# Altium integrated library TI Audio CODEC.IntLib: 199 symbols (part 17 of 17)
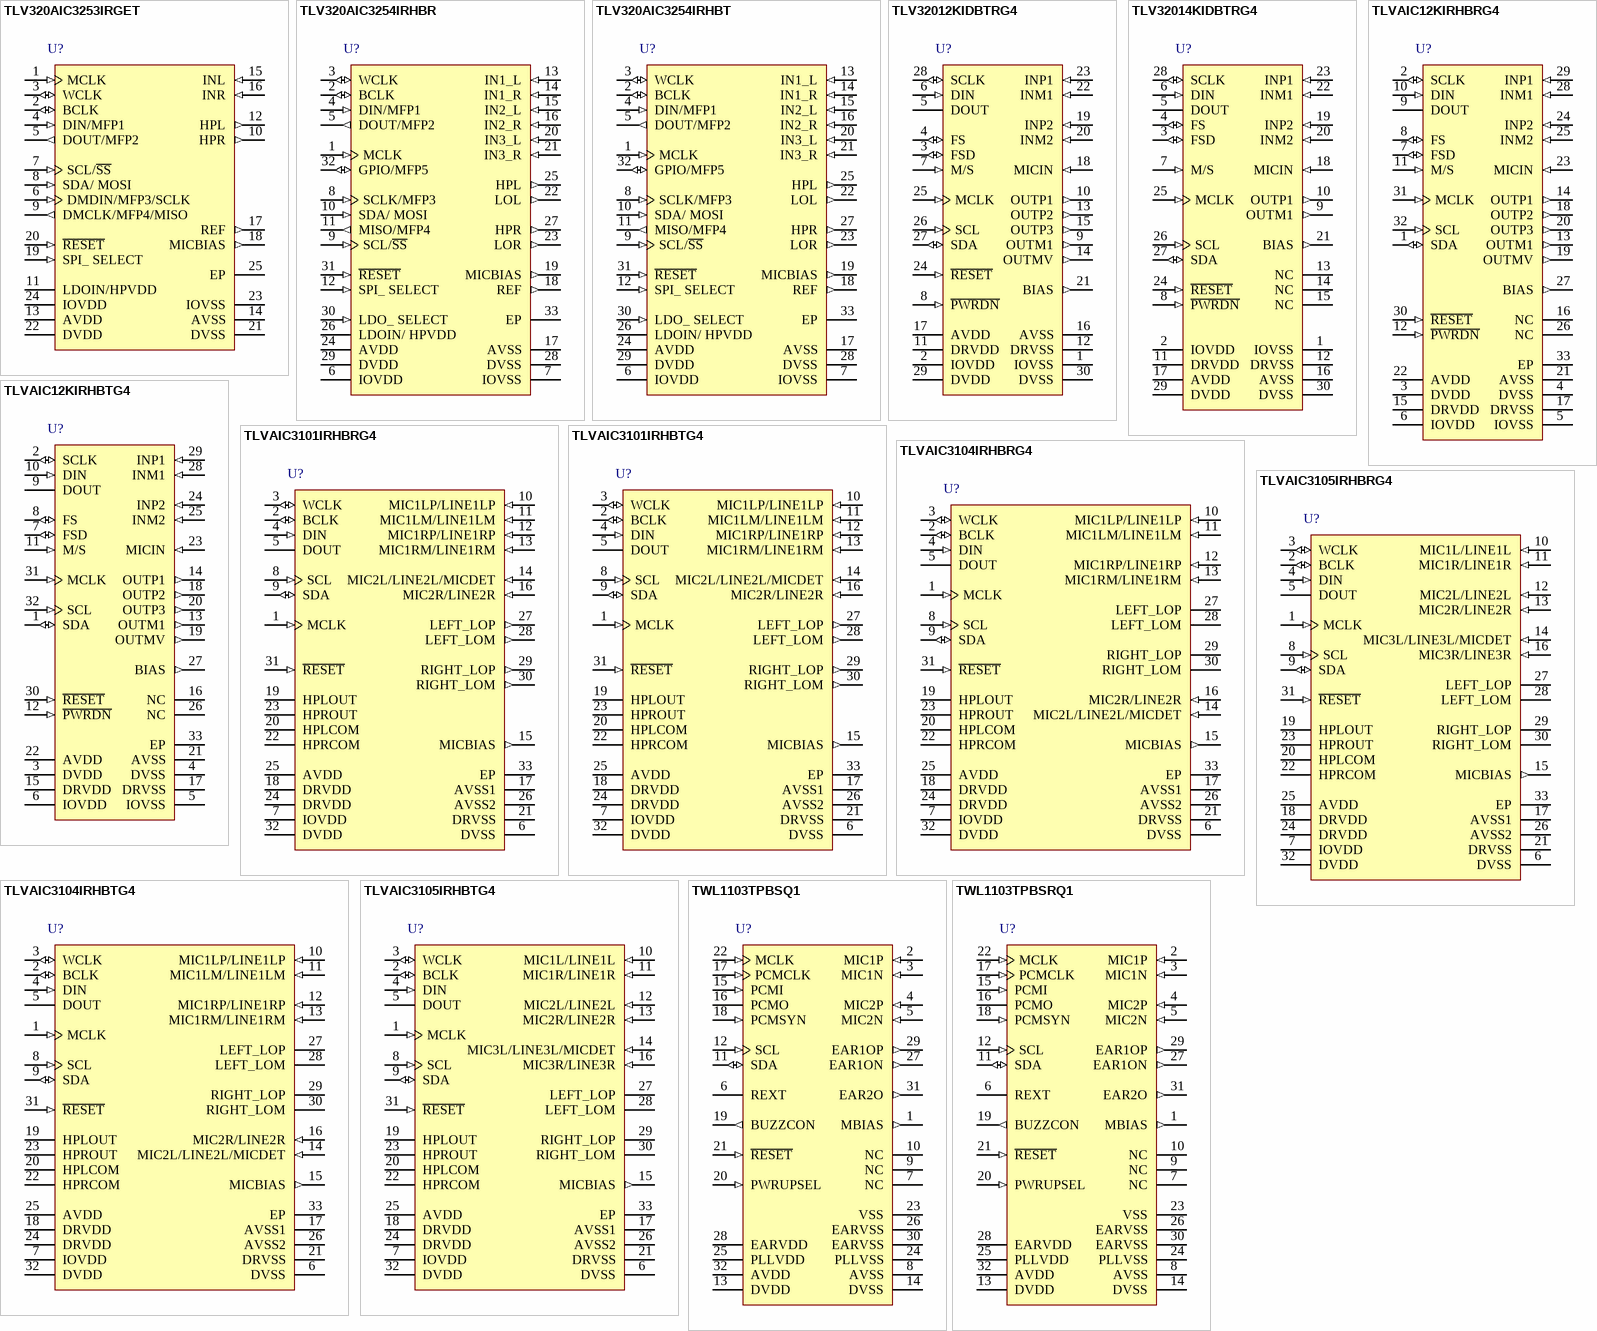
[diagram p29: symbols TLV320AIC3253IRGET to TWL1103TPBSRQ1]

## TLV320AIC3254IRHBT
designator U?
Very Low-Power Stereo Audio CODEC with miniDSP and Power Tune™ Technology, 2 ADCs and 2 DACs, 100 dB DAC SNR, -40 to 85 degC, 32-pin QFN (RHB), Green (RoHS & no Sb/Br); Manufacturer: Texas Instruments; PartNumber: TLV320AIC3254IRHBT; # ADCs (typ): 2; Additional Features: MiniDSP, PowerTune (tm), LP Bypass, PLL, Digital Mic Support, LDO (for single supply operation up to 3.6V); Battery Powered: TRUE; Control Interface: SPI, I2C; DAC SNR: 100; Digital Audio Interfaces: L, R, I2S, TDM, DSP; Sampling Rate (Max) (kHz): 192; DatasheetVersion: SLAS549B; PackageVersion: revD, Jun-2011; PackageReference: RHB32-3450X3450TP; PackageDescription: 32-Pin Plastic Quad Flat No-Lead, 5 x 5 mm Body, 0.5 mm Pitch, 3.45 x 3.45 mm Exposed Pad; Supplier 1: Digi-Key; Supplier Part Number 1: TLV320AIC3254IRHBT-ND; Supplier 2: Farnell; Supplier Part Number 2: 1689425; Supplier 3: Newark; Supplier Part Number 3: 12P7895; Supplier 4: Mouser; Supplier Part Number 4: 595-V320AIC3254IRHBT; # DACs: 2; Headphone Driver: TRUE; Mounting Technology: Surface Mount; Code_JEDEC: MO-220; ComponentLink1Description: Datasheet; ComponentLink1URL: http://www.ti.com/general/docs/lit/getliterature.tsp?genericPartNumber=TLV320AIC3254&fileType=pdf
footprint RHB32-3450X3450TP (QFN, 32-Leads, Body 5x5mm, Pitch 0.5mm, Thermal Pad 3.45x3.45mm, TI Recommended)
pins: 1 MCLK (in) "Master Clock Input", 2 BCLK (io) "Audio serial data bus (primary) bit clock", 3 WCLK (io) "Audio serial data bus (primary) word clock", 4 DIN/MFP1 (in) "Primary function: Audio serial data bus data input. Secondary function:Audio serial data bus (secondary) bit clock input;Audio serial data bus (secondary) word clock input; Digital Microphone Input; Clock Input; General (See Datasheet)", 5 DOUT/MFP2 (out) "Primary: Audio serial data bus data output. Secondary: General Purpose Output; Clock Output; INT1 Output; INT2 Output; Audio serial data bus (secondary) bit clock output; Audio serial data bus (secondary) word clock output.", 6 IOVDD (power) "I/O voltage supply 1.1V - 3.6V", 7 IOVSS (power) "I/O ground supply", 8 SCLK/MFP3 (in) "Primary (SPI_Select = 1): SPI serial clock. Secondary(SPI_Select = 0): Headset-detect input; Digital microphone input; Audio serial data bus (secondary) bit clock input ;Audio serial data bus (secondary) DAC/common word (See Datasheet)", 9 SCL/~{SS} (in) "I2C interface serial clock (SPI_Select = 0);SPI interface mode chip-select signal (SPI_Select = 1)", 10 SDA/ MOSI (in) "I2C interface mode serial data input (SPI_Select = 0); SPI interface mode serial data input (SPI_Select = 1)", 11 MISO/MFP4 (out) "Primary (SPI_Select = 1): Serial data output.Secondary (SPI_Select = 0): General purpose output; CLKOUT output; INT1 output ;INT2 output; Audio serial data bus (primary) ADC word clock output ;Digital microphone clock output (See Datasheet)", 12 SPI_ SELECT (in) "Control mode select pin ( 1 = SPI, 0 = I2C )", 13 IN1_L (in) "Multifunction Analog Input, or Single-ended configuration: MIC 1 or Line 1 left or Differential configuration: MIC or Line right, negative", 14 IN1_R (in) "Multifunction Analog Input, or Single-ended configuration: MIC 1 or Line 1 right or Differential configuration: MIC or Line right, positive", 15 IN2_L (in) "Multifunction Analog Input, or Single-ended configuration: MIC 2 or Line 2 right or Differential configuration: MIC or Line left, positive", 16 IN2_R (in) "Multifunction Analog Input, or Single-ended configuration: MIC 2 or Line 2 right or Differential configuration: MIC or Line left, negative", 17 AVSS (power) "Analog ground supply", 18 REF (out) "Reference voltage output for filtering", 19 MICBIAS (out) "Microphone bias voltage output", 20 IN3_L (in) "Multifunction Analog Input, or Single-ended configuration: MIC3 or Line 3 left, or Differential configuration: MIC or Line left, positive, or Differential configuration: MIC or Line right, negative", 21 IN3_R (in) "Multifunction Analog Input, or Single-ended configuration: MIC3 or Line 3 right, or Differential configuration: MIC or Line left, negative, or Differential configuration: MIC or Line right, positive", 22 LOL (out) "Left line output", 23 LOR (out) "Right line output", 24 AVDD (power) "Analog voltage supply 1.5V-1.95V Input when A-LDO disabled, Filtering output when A-LDO enabled", 25 HPL (out) "Left high power output driver", 26 LDOIN/ HPVDD (power) "LDO Input supply and Headphone Power supply 1.9V- 3.6V", 27 HPR (out) "Right high power output driver", 28 DVSS (power) "Digital Ground and Chip-substrate", 29 DVDD (power) "If LDO_SELECT Pin = 0 (D-LDO disabled) Digital voltage supply 1.26V - 1.95V, If LDO_SELECT Pin = 1 (D-LDO enabled) Digital voltage supply filtering output", 30 LDO_ SELECT (in) "connect to DVss", 31 ~{RESET} (in) "Reset (active low)", 32 GPIO/MFP5 (io) "Primary: General Purpose digital IO.Secondary: CLKOUT Output; INT1 Output; INT2 Output; Audio serial data bus ADC word clock output ;Audio serial data bus (secondary) bit clock output ;Audio serial data bus (secondary) word (See Datasheet)", 33 EP "Exposed Thermal Pad"

## TLV32012KIDBTRG4
designator U?
Low-Power Mono Voice Band CODEC with 8-ohm Speaker Amplifier, 1 ADC and 1 DAC, 92 dB DAC SNR, -40 to 85 degC, 30-pin TSSOP (DBT), Green (RoHS & no Sb/Br); Manufacturer: Texas Instruments; PartNumber: TLV32012KIDBTRG4; # ADCs (typ): 1; Additional Features: 8 Ohm Speaker Amplifier; Battery Powered: TRUE; Control Interface: I2C, S2C; DAC SNR: 92; Digital Audio Interfaces: DSP, SMART TDM; Sampling Rate (Max) (kHz): 26; Speaker Amp Output Power(Max)(W): 0.19; Speaker Amp Type: Class-AB; DatasheetVersion: SLWS115E; PackageVersion: Sep-2005; PackageReference: DBT30; PackageDescription: 30-Pin Thin Shrink Small Outline Package 0.5 mm Pitch; Supplier 1: Digi-Key; Supplier Part Number 1: TLV32012KIDBTRG4-ND; Supplier 2: Newark; Supplier Part Number 2: 67K8545; Supplier 3: Mouser; Supplier Part Number 3: 595-TLV32012KIDBTRG4; # DACs: 1; Headphone Driver: TRUE; Speaker Amp Ouputs: 1; Mounting Technology: Surface Mount; Code_JEDEC: MO-153; ComponentLink1Description: Datasheet; ComponentLink1URL: http://www.ti.com/general/docs/lit/getliterature.tsp?genericPartNumber=TLV320AIC12K&fileType=pdf
footprint DBT30_N (TSSOP, 30-Leads, Body 7.8x4.4mm, Pitch 0.5mm, IPC Medium Density)
footprint DBT30_L (TSSOP, 30-Leads, Body 7.8x4.4mm, Pitch 0.5mm, IPC High Density)
footprint DBT30_M (TSSOP, 30-Leads, Body 7.8x4.4mm, Pitch 0.5mm, IPC Low Density)
pins: 1 IOVSS (power) "Digital I/O ground", 2 IOVDD (power) "Digital I/O power supply", 3 FSD (io) "Frame sync delayed output. The FSD output synchronizes a slave device to the frame sync of the master device. FSD is applied to the slave FS input and is the same duration as the master FS signal. This pin must be pulled low (See Datasheet)", 4 FS (io) "Frame sync. When FS goes low, DIN begins receiving data bits and DOUT begins transmitting data bits. In master mode, FS is internally generated. In slave mode, FS is externally generated.", 5 DOUT (hiz) "Data output. DOUT transmits the ADC output bits and registers data,and is synchronized to SCLK and FS. Data is sent out at the rising edge of SCLK. Outside data/control frame, DOUT is put in 3-state.", 6 DIN (in) "Data input. DIN receives the DAC input data and register data from the external DSP (digital signal processor) and is synchronized to SCLK and FS. Data is latched at the falling edge of SCLK.", 7 M/S (in) "Master/slave select input. When M/S is high, the device is the master,and when low it is a slave.", 8 ~{PWRDN} (in) "Power down. When P\W\R\D\N\ is pulled low, the device goes into a power-down mode, the serial interface is disabled, and most of the high-speed clocks are disabled. However, all the register values are sustained and the (See Datasheet)", 9 OUTM1 (out) "Inverting output of the DAC. OUTM1 is functionally identical with and complementary to OUTP1. This differential output can drive a maximum load of 600 ohm. This output can also be used alone for single-ended operation.", 10 OUTP1 (out) "Noninverting output of the DAC. This differential output can drive a maximum load of 600 ohm. This output can also be used alone for single-ended operation.", 11 DRVDD (power) "Analog power supply for the 16-ohm drivers OUTP2 and OUTP3", 12 DRVSS (power) "Analog ground for the 16-ohm drivers OUTP2 and OUTP3", 13 OUTP2 (out) "Analog output number 2 from the 16-ohm driver. This output can drive a maximum load of 16 ohm, and also can be configured as either single-ended output or differential output by the control register 6.", 14 OUTMV (out) "Programmable virtual ground for the output of OUTP2 and OUTP3 (see the Register Map).", 15 OUTP3 (out) "Analog output number 3 from the 16-ohm driver. This output can drive a maximum load of 16 ohm, and also be configured as either single-ended output or differential output by the control register 6.", 16 AVSS (power) "Analog ground", 17 AVDD (power) "Analog power supply", 18 MICIN (in) "MIC preamplifier input. It must be connected to AVSS if not used.", 19 INP2 (in) "Noninverting analog input 2. It must be connected to AVSS if not used.", 20 INM2 (in) "Inverting analog input 2. It must be connected to AVSS if not used.", 21 BIAS (out) "Bias output voltage is software selectable between 1.35 V and 2.35 V.Its output current is 5 mA.", 22 INM1 (in) "Inverting analog input 1. It must be connected to AVSS if not used.", 23 INP1 (in) "Noninverting analog input 1. It must be connected to AVSS if not used.", 24 ~{RESET} (in) "Hardware reset. The reset function is provided to initialize all of the internal registers to their default values. The serial port is configured to the default state accordingly.", 25 MCLK (in) "Master clock. MCLK derives the internal clocks of the sigma-delta analog interface circuit.", 26 SCL (in) "Programmable host port (I2C or S2C) clock input.", 27 SDA (io) "Programmable host port (I2C or S2C) data line.", 28 SCLK (io) "Shift clock. SCLK signal clocks serial data into DIN and out of DOUT during the frame-sync interval. When configured as an output (M/S high), SCLK is generated internally by multiplying the frame-sync signal frequency by 16 (See Datasheet)", 29 DVDD (power) "Digital power supply", 30 DVSS (power) "Digital ground"

## TLV32014KIDBTRG4
designator U?
Low-Power Mono Voice Band CODEC with 1 ADC and 1 DAC, 92 dB DAC SNR, -40 to 85 degC, 30-pin TSSOP (DBT), Green (RoHS & no Sb/Br); Manufacturer: Texas Instruments; PartNumber: TLV32014KIDBTRG4; # ADCs (typ): 1; Battery Powered: TRUE; Control Interface: I2C, S2C; DAC SNR: 92; Digital Audio Interfaces: DSP, SMART TDM; Sampling Rate (Max) (kHz): 26; DatasheetVersion: SLWS115E; PackageVersion: Sep-2005; PackageReference: DBT30; PackageDescription: 30-Pin Thin Shrink Small Outline Package 0.5 mm Pitch; Supplier 1: Digi-Key; Supplier Part Number 1: TLV32014KIDBTRG4-ND; Supplier 2: Newark; Supplier Part Number 2: 70K5545; Supplier 3: Mouser; Supplier Part Number 3: 595-TLV32014KIDBTRG4; # DACs: 1; Mounting Technology: Surface Mount; Code_JEDEC: MO-153; ComponentLink1Description: Datasheet; ComponentLink1URL: http://www.ti.com/general/docs/lit/getliterature.tsp?genericPartNumber=TLV320AIC14K&fileType=pdf
footprint DBT30_N (TSSOP, 30-Leads, Body 7.8x4.4mm, Pitch 0.5mm, IPC Medium Density)
footprint DBT30_L (TSSOP, 30-Leads, Body 7.8x4.4mm, Pitch 0.5mm, IPC High Density)
footprint DBT30_M (TSSOP, 30-Leads, Body 7.8x4.4mm, Pitch 0.5mm, IPC Low Density)
pins: 1 IOVSS (power) "Digital I/O ground", 2 IOVDD (power) "Digital I/O power supply", 3 FSD (io) "Frame sync delayed output. The FSD output synchronizes a slave device to the frame sync of the master device. FSD is applied to the slave FS input and is the same duration as the master FS signal. This pin must be pulled low (See Datasheet)", 4 FS (io) "Frame sync. When FS goes low, DIN begins receiving data bits and DOUT begins transmitting data bits. In master mode, FS is internally generated. In slave mode, FS is externally generated.", 5 DOUT (hiz) "Data output. DOUT transmits the ADC output bits and registers data,and is synchronized to SCLK and FS. Data is sent out at the rising edge of SCLK. Outside data/control frame, DOUT is put in 3-state.", 6 DIN (in) "Data input. DIN receives the DAC input data and register data from the external DSP (digital signal processor) and is synchronized to SCLK  and FS. Data is latched at the falling edge of SCLK.", 7 M/S (in) "Master/slave select input. When M/S is high, the device is the master,and when low it is a slave.", 8 ~{PWRDN} (in) "Power down. When P\W\R\D\N\ is pulled low, the device goes into a power-down mode, the serial interface is disabled, and most of the high-speed clocks are disabled. However, all the register values are sustained and the (See Datasheet)", 9 OUTM1 (out) "Inverting output of the DAC. OUTM1 is functionally identical with and complementary to OUTP1. This differential output can drive a maximum load of 600 W. This output can also be used alone for single-ended operation.", 10 OUTP1 (out) "Noninverting output of the DAC. This differential output can drive a maximum load of 600 W. This output can also be used alone for single-ended operation.", 11 DRVDD (power) "Analog power supply for the 16-W drivers OUTP2 and OUTP3", 12 DRVSS (power) "Analog ground for the 16-W drivers OUTP2 and OUTP3", 13 NC "No connection", 14 NC "No connection", 15 NC "No connection", 16 AVSS (power) "Analog ground", 17 AVDD (power) "Analog power supply", 18 MICIN (in) "MIC preamplifier input. It must be connected to AVSS if not used.", 19 INP2 (in) "Noninverting analog input 2. It must be connected to AVSS if not used.", 20 INM2 (in) "Inverting analog input 2. It must be connected to AVSS if not used.", 21 BIAS (out) "Bias output voltage is software selectable between 1.35 V and 2.35 V.Its output current is 5 mA.", 22 INM1 (in) "Inverting analog input 1. It must be connected to AVSS if not used.", 23 INP1 (in) "Noninverting analog input 1. It must be connected to AVSS if not used.", 24 ~{RESET} (in) "Hardware reset. The reset function is provided to initialize all of the internal registers to their default values. The serial port is configured to the default state accordingly.", 25 MCLK (in) "Master clock. MCLK derives the internal clocks of the sigma-delta analog interface circuit.", 26 SCL (in) "Programmable host port (I2C or S2C) clock input.", 27 SDA (io) "Programmable host port (I2C or S2C) data line.", 28 SCLK (io) "Shift clock. SCLK signal clocks serial data into DIN and out of DOUT during the frame-sync interval. When configured as an output (M/S high), SCLK is generated internally by multiplying the frame-sync signal frequency by 16 (See Datasheet)", 29 DVDD (power) "Digital power supply", 30 DVSS (power) "Digital ground"

## TLVAIC12KIRHBRG4
designator U?
Low-Power Mono Voice Band CODEC with 8-ohm Speaker Amplifier, 1 ADC and 1 DAC, 92 dB DAC SNR, -40 to 85 degC, 32-pin QFN (RHB), Green (RoHS & no Sb/Br); Manufacturer: Texas Instruments; PartNumber: TLVAIC12KIRHBRG4; # ADCs (typ): 1; Additional Features: 8 Ohm Speaker Amplifier; Battery Powered: TRUE; Control Interface: I2C, S2C; DAC SNR: 92; Digital Audio Interfaces: DSP, SMART TDM; Sampling Rate (Max) (kHz): 26; Speaker Amp Output Power(Max)(W): 0.19; Speaker Amp Type: Class-AB; DatasheetVersion: SLWS115E; PackageVersion: revD, Jun-2011; PackageReference: RHB32-3450X3450TP; PackageDescription: 32-Pin Plastic Quad Flat No-Lead, 5 x 5 mm Body, 0.5 mm Pitch, 3.45 x 3.45 mm Exposed Pad; Supplier 1: Digi-Key; Supplier Part Number 1: TLVAIC12KIRHBRG4-ND; Supplier 2: Newark; Supplier Part Number 2: 34M0107; Supplier 3: Mouser; Supplier Part Number 3: 595-TLVAIC12KIRHBRG4; # DACs: 1; Speaker Amp Ouputs: 1; Mounting Technology: Surface Mount; Code_JEDEC: MO-220; ComponentLink1Description: Datasheet; ComponentLink1URL: http://www.ti.com/general/docs/lit/getliterature.tsp?genericPartNumber=TLV320AIC12K&fileType=pdf
footprint RHB32-3450X3450TP (QFN, 32-Leads, Body 5x5mm, Pitch 0.5mm, Thermal Pad 3.45x3.45mm, TI Recommended)
pins: 1 SDA (io) "Programmable host port (I2C or S2C) data line.", 2 SCLK (io) "Shift clock. SCLK signal clocks serial data into DIN and out of DOUT during the frame-sync interval. When configured as an output (M/S high), SCLK is generated internally by multiplying the frame-sync signal frequency by 16 (See Datasheet)", 3 DVDD (power) "Digital power supply", 4 DVSS (power) "Digital ground", 5 IOVSS (power) "Digital I/O ground", 6 IOVDD (power) "Digital I/O power supply", 7 FSD (io) "Frame sync delayed output. The FSD output synchronizes a slave device to the frame sync of the master device. FSD is applied to the slave FS input and is the same duration as the master FS signal. This pin must be pulled low (See Datasheet)", 8 FS (io) "Frame sync. When FS goes low, DIN begins receiving data bits and DOUT begins transmitting data bits. In master mode, FS is internally generated. In slave mode, FS is externally generated.", 9 DOUT (hiz) "Data output. DOUT transmits the ADC output bits and registers data,and is synchronized to SCLK and FS. Data is sent out at the rising edge of SCLK. Outside data/control frame, DOUT is put in 3-state.", 10 DIN (in) "Data input. DIN receives the DAC input data and register data from the external DSP (digital signal processor) and is synchronized to SCLK and FS. Data is latched at the falling edge of SCLK.", 11 M/S (in) "Master/slave select input. When M/S is high, the device is the master, and when low it is a slave.", 12 ~{PWRDN} (in) "Power down. When P\W\R\D\N\ is pulled low, the device goes into a power-down mode, the serial interface is disabled, and most of the high-speed clocks are disabled. However, all the register values are sustained and the (See Datasheet)", 13 OUTM1 (out) "Inverting output of the DAC. OUTM1 is functionally identical with and complementary to OUTP1. This differential output can drive a maximum load of 600 ohm. This output can also be used alone for single-ended operation.", 14 OUTP1 (out) "Noninverting output of the DAC. This differential output can drive a maximum load of 600 ohm. This output can also be used alone for single-ended operation.", 15 DRVDD (power) "Analog power supply for the 16-ohm drivers OUTP2 and OUTP3", 16 NC "No connection", 17 DRVSS (power) "Analog ground for the 16-ohm drivers OUTP2 and OUTP3", 18 OUTP2 (out) "Analog output number 2 from the 16-ohm driver. This output can drive a maximum load of 16 ohm, and also can be configured as either single-ended output or differential output by the control register 6.", 19 OUTMV (out) "Programmable virtual ground for the output of OUTP2 and OUTP3 (see the Register Map).", 20 OUTP3 (out) "Analog output number 3 from the 16-ohm driver. This output can drive a maximum load of 16 ohm, and also be configured as either single-ended output or differential output by the control register 6.", 21 AVSS (power) "Analog ground", 22 AVDD (power) "Analog power supply", 23 MICIN (in) "MIC preamplifier input. It must be connected to AVSS if not used.", 24 INP2 (in) "Noninverting analog input 2. It must be connected to AVSS if not used.", 25 INM2 (in) "Inverting analog input 2. It must be connected to AVSS if not used.", 26 NC "No connection", 27 BIAS (out) "Bias output voltage is software selectable between 1.35 V and 2.35 V. Its output current is 5 mA.", 28 INM1 (in) "Inverting analog input 1. It must be connected to AVSS if not used.", 29 INP1 (in) "Noninverting analog input 1. It must be connected to AVSS if not used.", 30 ~{RESET} (in) "Hardware reset. The reset function is provided to initialize all of the internal registers to their default values. The serial port is configured to the default state accordingly.", 31 MCLK (in) "Master clock. MCLK derives the internal clocks of the sigma-delta analog interface circuit.", 32 SCL (in) "Programmable host port (I2C or S2C) clock input.", 33 EP (power) "Exposed Thermal Pad"

## TLVAIC12KIRHBTG4
designator U?
Low-Power Mono Voice Band CODEC with 8-ohm Speaker Amplifier, 1 ADC and 1 DAC, 92 dB DAC SNR, -40 to 85 degC, 32-pin QFN (RHB), Green (RoHS & no Sb/Br); Manufacturer: Texas Instruments; PartNumber: TLVAIC12KIRHBTG4; # ADCs (typ): 1; Additional Features: 8 Ohm Speaker Amplifier; Battery Powered: TRUE; Control Interface: I2C, S2C; DAC SNR: 92; Digital Audio Interfaces: DSP, SMART TDM; Sampling Rate (Max) (kHz): 26; Speaker Amp Output Power(Max)(W): 0.19; Speaker Amp Type: Class-AB; DatasheetVersion: SLWS115E; PackageVersion: revD, Jun-2011; PackageReference: RHB32-3450X3450TP; PackageDescription: 32-Pin Plastic Quad Flat No-Lead, 5 x 5 mm Body, 0.5 mm Pitch, 3.45 x 3.45 mm Exposed Pad; Supplier 1: Digi-Key; Supplier Part Number 1: TLVAIC12KIRHBTG4-ND; Supplier 2: Newark; Supplier Part Number 2: 30M1783; Supplier 3: Mouser; Supplier Part Number 3: 595-TLVAIC12KIRHBTG4; # DACs: 1; Speaker Amp Ouputs: 1; Mounting Technology: Surface Mount; Code_JEDEC: MO-220; ComponentLink1Description: Datasheet; ComponentLink1URL: http://www.ti.com/general/docs/lit/getliterature.tsp?genericPartNumber=TLV320AIC12K&fileType=pdf
footprint RHB32-3450X3450TP (QFN, 32-Leads, Body 5x5mm, Pitch 0.5mm, Thermal Pad 3.45x3.45mm, TI Recommended)
pins: 1 SDA (io) "Programmable host port (I2C or S2C) data line.", 2 SCLK (io) "Shift clock. SCLK signal clocks serial data into DIN and out of DOUT during the frame-sync interval. When configured as an output (M/S high), SCLK is generated internally by multiplying the frame-sync signal frequency by 16 (See Datasheet)", 3 DVDD (power) "Digital power supply", 4 DVSS (power) "Digital ground", 5 IOVSS (power) "Digital I/O ground", 6 IOVDD (power) "Digital I/O power supply", 7 FSD (io) "Frame sync delayed output. The FSD output synchronizes a slave device to the frame sync of the master device. FSD is applied to the slave FS input and is the same duration as the master FS signal. This pin must be pulled low (See Datasheet)", 8 FS (io) "Frame sync. When FS goes low, DIN begins receiving data bits and DOUT begins transmitting data bits. In master mode, FS is internally generated. In slave mode, FS is externally generated.", 9 DOUT (hiz) "Data output. DOUT transmits the ADC output bits and registers data,and is synchronized to SCLK and FS. Data is sent out at the rising edge of SCLK. Outside data/control frame, DOUT is put in 3-state.", 10 DIN (in) "Data input. DIN receives the DAC input data and register data from the external DSP (digital signal processor) and is synchronized to SCLK and FS. Data is latched at the falling edge of SCLK.", 11 M/S (in) "Master/slave select input. When M/S is high, the device is the master, and when low it is a slave.", 12 ~{PWRDN} (in) "Power down. When P\W\R\D\N\ is pulled low, the device goes into a power-down mode, the serial interface is disabled, and most of the high-speed clocks are disabled. However, all the register values are sustained and the (See Datasheet)", 13 OUTM1 (out) "Inverting output of the DAC. OUTM1 is functionally identical with and complementary to OUTP1. This differential output can drive a maximum load of 600 ohm. This output can also be used alone for single-ended operation.", 14 OUTP1 (out) "Noninverting output of the DAC. This differential output can drive a maximum load of 600 ohm. This output can also be used alone for single-ended operation.", 15 DRVDD (power) "Analog power supply for the 16-ohm drivers OUTP2 and OUTP3", 16 NC "No connection", 17 DRVSS (power) "Analog ground for the 16-ohm drivers OUTP2 and OUTP3", 18 OUTP2 (out) "Analog output number 2 from the 16-ohm driver. This output can drive a maximum load of 16 ohm, and also can be configured as either single-ended output or differential output by the control register 6.", 19 OUTMV (out) "Programmable virtual ground for the output of OUTP2 and OUTP3 (see the Register Map).", 20 OUTP3 (out) "Analog output number 3 from the 16-ohm driver. This output can drive a maximum load of 16 ohm, and also be configured as either single-ended output or differential output by the control register 6.", 21 AVSS (power) "Analog ground", 22 AVDD (power) "Analog power supply", 23 MICIN (in) "MIC preamplifier input. It must be connected to AVSS if not used.", 24 INP2 (in) "Noninverting analog input 2. It must be connected to AVSS if not used.", 25 INM2 (in) "Inverting analog input 2. It must be connected to AVSS if not used.", 26 NC "No connection", 27 BIAS (out) "Bias output voltage is software selectable between 1.35 V and 2.35 V. Its output current is 5 mA.", 28 INM1 (in) "Inverting analog input 1. It must be connected to AVSS if not used.", 29 INP1 (in) "Noninverting analog input 1. It must be connected to AVSS if not used.", 30 ~{RESET} (in) "Hardware reset. The reset function is provided to initialize all of the internal registers to their default values. The serial port is configured to the default state accordingly.", 31 MCLK (in) "Master clock. MCLK derives the internal clocks of the sigma-delta analog interface circuit.", 32 SCL (in) "Programmable host port (I2C or S2C) clock input.", 33 EP (power) "Exposed Thermal Pad"

## TLVAIC3101IRHBRG4
designator U?
Low-Power Stereo CODEC with 6 Inputs, 6 Outputs, Speaker / HP Amp and Enhanced Digital Effects, 2 ADCs and 2 DACs, 102 dB DAC SNR, -40 to 85 degC, 32-pin QFN (RHB), Green (RoHS & no Sb/Br); Manufacturer: Texas Instruments; PartNumber: TLVAIC3101IRHBRG4; # ADCs (typ): 2; Additional Features: LP Bypass, Notch Filtering, 3D, EQ, Matrix Mixing, PLL, Stereo Speaker Amplifier; Battery Powered: TRUE; Control Interface: I2C; DAC SNR: 102; Digital Audio Interfaces: L, R, I2S, DSP, TDM; Sampling Rate (Max) (kHz): 96; Speaker Amp Output Power(Max)(W): 0.5; Speaker Amp Type: Class-AB; DatasheetVersion: SLAS520D; PackageVersion: revD, Jun-2011; PackageReference: RHB32-3450X3450TP; PackageDescription: 32-Pin Plastic Quad Flat No-Lead, 5 x 5 mm Body, 0.5 mm Pitch, 3.45 x 3.45 mm Exposed Pad; Supplier 1: Digi-Key; Supplier Part Number 1: TLVAIC3101IRHBRG4-ND; Supplier 2: Newark; Supplier Part Number 2: 52M6072; Supplier 3: Mouser; Supplier Part Number 3: 595-LVAIC3101IRHBRG4; # DACs: 2; Speaker Amp Ouputs: 2; Mounting Technology: Surface Mount; Code_JEDEC: MO-220; ComponentLink1Description: Datasheet; ComponentLink1URL: http://www.ti.com/general/docs/lit/getliterature.tsp?genericPartNumber=TLV320AIC3101&fileType=pdf
footprint RHB32-3450X3450TP (QFN, 32-Leads, Body 5x5mm, Pitch 0.5mm, Thermal Pad 3.45x3.45mm, TI Recommended)
pins: 1 MCLK (in) "Master clock input", 2 BCLK (io) "Audio serial data bus bit clock input/output", 3 WCLK (io) "Audio serial data bus word clock input/output", 4 DIN (in) "Audio serial data bus data input", 5 DOUT (hiz) "Audio serial data bus data output", 6 DVSS (power) "Digital core / I/O ground supply, 0 V", 7 IOVDD (power) "Digital I/O voltage supply, 1.1 V-3.6 V", 8 SCL (in) "I2C serial clock input", 9 SDA (io) "I2C serial data input/output", 10 MIC1LP/LINE1LP (in) "Left input 1 (SE) or left input + (diff)", 11 MIC1LM/LINE1LM (in) "Left input - (diff only)", 12 MIC1RP/LINE1RP (in) "Right input 1 (SE) or right input + (diff)", 13 MIC1RM/LINE1RM (in) "Right input - (diff only)", 14 MIC2L/LINE2L/MICDET (in) "Left input 2 (SE); can support microphone detection", 15 MICBIAS (out) "Microphone bias voltage output", 16 MIC2R/LINE2R (in) "Right input 2 (SE)", 17 AVSS1 (power) "Analog ADC ground supply, 0 V", 18 DRVDD (power) "Analog ADC and output driver voltage supply, 2.7 V-3.6 V", 19 HPLOUT (hiz) "High-power output driver (left +)", 20 HPLCOM (hiz) "High-power output driver (left - or multifunctional)", 21 DRVSS (power) "Analog output driver ground supply, 0 V", 22 HPRCOM (hiz) "High-power output driver (right - or multifunctional)", 23 HPROUT (hiz) "High-power output driver (right +)", 24 DRVDD (power) "Analog output driver voltage supply, 2.7 V-3.6 V", 25 AVDD (power) "Analog DAC voltage supply, 2.7 V-3.6 V", 26 AVSS2 (power) "Analog DAC ground supply, 0 V", 27 LEFT_LOP (out) "Left line output (+)", 28 LEFT_LOM (out) "Left line output (-)", 29 RIGHT_LOP (out) "Right line output (+)", 30 RIGHT_LOM (out) "Right line output (-)", 31 ~{RESET} (in) "Reset", 32 DVDD (power) "Digital core voltage supply, 1.525 V-1.95 V", 33 EP (power) "Connect device thermal pad to DRVSS."

## TLVAIC3101IRHBTG4
designator U?
Low-Power Stereo CODEC with 6 Inputs, 6 Outputs, Speaker / HP Amp and Enhanced Digital Effects, 2 ADCs and 2 DACs, 102 dB DAC SNR, -40 to 85 degC, 32-pin QFN (RHB), Green (RoHS & no Sb/Br); Manufacturer: Texas Instruments; PartNumber: TLVAIC3101IRHBTG4; # ADCs (typ): 2; Additional Features: LP Bypass, Notch Filtering, 3D, EQ, Matrix Mixing, PLL, Stereo Speaker Amplifier; Battery Powered: TRUE; Control Interface: I2C; DAC SNR: 102; Digital Audio Interfaces: L, R, I2S, DSP, TDM; Sampling Rate (Max) (kHz): 96; Speaker Amp Output Power(Max)(W): 0.5; Speaker Amp Type: Class-AB; DatasheetVersion: SLAS520D; PackageVersion: revD, Jun-2011; PackageReference: RHB32-3450X3450TP; PackageDescription: 32-Pin Plastic Quad Flat No-Lead, 5 x 5 mm Body, 0.5 mm Pitch, 3.45 x 3.45 mm Exposed Pad; Supplier 1: Digi-Key; Supplier Part Number 1: TLVAIC3101IRHBTG4-ND; Supplier 2: Newark; Supplier Part Number 2: 52M6073; Supplier 3: Mouser; Supplier Part Number 3: 595-LVAIC3101IRHBTG4; # DACs: 2; Speaker Amp Ouputs: 2; Mounting Technology: Surface Mount; Code_JEDEC: MO-220; ComponentLink1Description: Datasheet; ComponentLink1URL: http://www.ti.com/general/docs/lit/getliterature.tsp?genericPartNumber=TLV320AIC3101&fileType=pdf
footprint RHB32-3450X3450TP (QFN, 32-Leads, Body 5x5mm, Pitch 0.5mm, Thermal Pad 3.45x3.45mm, TI Recommended)
pins: 1 MCLK (in) "Master clock input", 2 BCLK (io) "Audio serial data bus bit clock input/output", 3 WCLK (io) "Audio serial data bus word clock input/output", 4 DIN (in) "Audio serial data bus data input", 5 DOUT (hiz) "Audio serial data bus data output", 6 DVSS (power) "Digital core / I/O ground supply, 0 V", 7 IOVDD (power) "Digital I/O voltage supply, 1.1 V-3.6 V", 8 SCL (in) "I2C serial clock input", 9 SDA (io) "I2C serial data input/output", 10 MIC1LP/LINE1LP (in) "Left input 1 (SE) or left input + (diff)", 11 MIC1LM/LINE1LM (in) "Left input - (diff only)", 12 MIC1RP/LINE1RP (in) "Right input 1 (SE) or right input + (diff)", 13 MIC1RM/LINE1RM (in) "Right input - (diff only)", 14 MIC2L/LINE2L/MICDET (in) "Left input 2 (SE); can support microphone detection", 15 MICBIAS (out) "Microphone bias voltage output", 16 MIC2R/LINE2R (in) "Right input 2 (SE)", 17 AVSS1 (power) "Analog ADC ground supply, 0 V", 18 DRVDD (power) "Analog ADC and output driver voltage supply, 2.7 V-3.6 V", 19 HPLOUT (hiz) "High-power output driver (left +)", 20 HPLCOM (hiz) "High-power output driver (left - or multifunctional)", 21 DRVSS (power) "Analog output driver ground supply, 0 V", 22 HPRCOM (hiz) "High-power output driver (right - or multifunctional)", 23 HPROUT (hiz) "High-power output driver (right +)", 24 DRVDD (power) "Analog output driver voltage supply, 2.7 V-3.6 V", 25 AVDD (power) "Analog DAC voltage supply, 2.7 V-3.6 V", 26 AVSS2 (power) "Analog DAC ground supply, 0 V", 27 LEFT_LOP (out) "Left line output (+)", 28 LEFT_LOM (out) "Left line output (-)", 29 RIGHT_LOP (out) "Right line output (+)", 30 RIGHT_LOM (out) "Right line output (-)", 31 ~{RESET} (in) "Reset", 32 DVDD (power) "Digital core voltage supply, 1.525 V-1.95 V", 33 EP (power) "Connect device thermal pad to DRVSS."

## TLVAIC3104IRHBRG4
designator U?
Low-Power Stereo CODEC with 6 Inputs, 6 Outputs, HP Amp and Enhanced Digital Effects, 2 ADCs and 2 DACs, 102 dB DAC SNR, -40 to 85 degC, 32-pin QFN (RHB), Green (RoHS & no Sb/Br); Manufacturer: Texas Instruments; PartNumber: TLVAIC3104IRHBRG4; # ADCs (typ): 2; Additional Features: LP Bypass, Notch Filtering, 3D, EQ, Matrix Mixing, PLL; Battery Powered: TRUE; Control Interface: I2C; DAC SNR: 102; Digital Audio Interfaces: L, R, I2S, DSP, TDM; Sampling Rate (Max) (kHz): 96; DatasheetVersion: SLAS510C; PackageVersion: revD, Jun-2011; PackageReference: RHB32-3450X3450TP; PackageDescription: 32-Pin Plastic Quad Flat No-Lead, 5 x 5 mm Body, 0.5 mm Pitch, 3.45 x 3.45 mm Exposed Pad; Supplier 1: Digi-Key; Supplier Part Number 1: TLVAIC3104IRHBRG4-ND; Supplier 2: Newark; Supplier Part Number 2: 53M3965; Supplier 3: Mouser; Supplier Part Number 3: 595-LVAIC3104IRHBRG4; # DACs: 2; Mounting Technology: Surface Mount; Code_JEDEC: MO-220; ComponentLink1Description: Datasheet; ComponentLink1URL: http://www.ti.com/general/docs/lit/getliterature.tsp?genericPartNumber=TLV320AIC3104&fileType=pdf
footprint RHB32-3450X3450TP (QFN, 32-Leads, Body 5x5mm, Pitch 0.5mm, Thermal Pad 3.45x3.45mm, TI Recommended)
pins: 1 MCLK (in) "Master clock input", 2 BCLK (io) "Audio serial data bus bit clock input/output", 3 WCLK (io) "Audio serial data bus word clock inout/output", 4 DIN (in) "Audio serial data bus data input", 5 DOUT (hiz) "Audio serial data bus data output", 6 DVSS (power) "Digital core I/O ground supply,0V", 7 IOVDD (power) "Digital I/O voltage supply,1.1V-3.6V", 8 SCL (in) "I2C serial clock input", 9 SDA (io) "I2C serial data input/output", 10 MIC1LP/LINE1LP (in) "Left input 1(SE) or left input + (diff)", 11 MIC1LM/LINE1LM (in) "Left input-(diff only)", 12 MIC1RP/LINE1RP (in) "Right input 1(SE) or right input + (diff)", 13 MIC1RM/LINE1RM (in) "Right input- (diff only)", 14 MIC2L/LINE2L/MICDET (in) "Left input 2(SE);can support microphone detection", 15 MICBIAS (out) "Microphone bias voltage output", 16 MIC2R/LINE2R (in) "Right input 2 (SE)", 17 AVSS1 (power) "Analog ADC ground supply,0V", 18 DRVDD (power) "Analog ADC and output driver voltage supply,2.7V-3.6V", 19 HPLOUT (hiz) "High-power output driver(left+)", 20 HPLCOM (hiz) "High-power output driver(left- or multi-functional)", 21 DRVSS (power) "Analog output driver ground supply,0V", 22 HPRCOM (hiz) "High-power output driver (right- or multi-functional)", 23 HPROUT (hiz) "High-power output driver(right+)", 24 DRVDD (power) "Analog output driver voltage supply,2.7V-3.6V", 25 AVDD (power) "Analog DAC voltage supply,2.7V-3.6V", 26 AVSS2 (power) "Analog DAC ground supply,0V", 27 LEFT_LOP (hiz) "Left line output(+)", 28 LEFT_LOM (hiz) "Left line output(-)", 29 RIGHT_LOP (hiz) "Right line output (+)", 30 RIGHT_LOM (hiz) "Right line output (-)", 31 ~{RESET} (in) "Reset", 32 DVDD (power) "Digital core voltage supply,1.525V-1.95V", 33 EP (power) "Exposed Thermal Pad"

## TLVAIC3104IRHBTG4
designator U?
Low-Power Stereo CODEC with 6 Inputs, 6 Outputs, HP Amp and Enhanced Digital Effects, 2 ADCs and 2 DACs, 102 dB DAC SNR, -40 to 85 degC, 32-pin QFN (RHB), Green (RoHS & no Sb/Br); Manufacturer: Texas Instruments; PartNumber: TLVAIC3104IRHBTG4; # ADCs (typ): 2; Additional Features: LP Bypass, Notch Filtering, 3D, EQ, Matrix Mixing, PLL; Battery Powered: TRUE; Control Interface: I2C; DAC SNR: 102; Digital Audio Interfaces: L, R, I2S, DSP, TDM; Sampling Rate (Max) (kHz): 96; DatasheetVersion: SLAS510C; PackageVersion: revD, Jun-2011; PackageReference: RHB32-3450X3450TP; PackageDescription: 32-Pin Plastic Quad Flat No-Lead, 5 x 5 mm Body, 0.5 mm Pitch, 3.45 x 3.45 mm Exposed Pad; Supplier 1: Digi-Key; Supplier Part Number 1: TLVAIC3104IRHBTG4-ND; Supplier 2: Newark; Supplier Part Number 2: 53M3966; Supplier 3: Mouser; Supplier Part Number 3: 595-LVAIC3104IRHBTG4; # DACs: 2; Mounting Technology: Surface Mount; Code_JEDEC: MO-220; ComponentLink1Description: Datasheet; ComponentLink1URL: http://www.ti.com/general/docs/lit/getliterature.tsp?genericPartNumber=TLV320AIC3104&fileType=pdf
footprint RHB32-3450X3450TP (QFN, 32-Leads, Body 5x5mm, Pitch 0.5mm, Thermal Pad 3.45x3.45mm, TI Recommended)
pins: 1 MCLK (in) "Master clock input", 2 BCLK (io) "Audio serial data bus bit clock input/output", 3 WCLK (io) "Audio serial data bus word clock inout/output", 4 DIN (in) "Audio serial data bus data input", 5 DOUT (hiz) "Audio serial data bus data output", 6 DVSS (power) "Digital core I/O ground supply,0V", 7 IOVDD (power) "Digital I/O voltage supply,1.1V-3.6V", 8 SCL (in) "I2C serial clock input", 9 SDA (io) "I2C serial data input/output", 10 MIC1LP/LINE1LP (in) "Left input 1(SE) or left input + (diff)", 11 MIC1LM/LINE1LM (in) "Left input-(diff only)", 12 MIC1RP/LINE1RP (in) "Right input 1(SE) or right input + (diff)", 13 MIC1RM/LINE1RM (in) "Right input- (diff only)", 14 MIC2L/LINE2L/MICDET (in) "Left input 2(SE);can support microphone detection", 15 MICBIAS (out) "Microphone bias voltage output", 16 MIC2R/LINE2R (in) "Right input 2 (SE)", 17 AVSS1 (power) "Analog ADC ground supply,0V", 18 DRVDD (power) "Analog ADC and output driver voltage supply,2.7V-3.6V", 19 HPLOUT (hiz) "High-power output driver(left+)", 20 HPLCOM (hiz) "High-power output driver(left- or multi-functional)", 21 DRVSS (power) "Analog output driver ground supply,0V", 22 HPRCOM (hiz) "High-power output driver (right- or multi-functional)", 23 HPROUT (hiz) "High-power output driver(right+)", 24 DRVDD (power) "Analog output driver voltage supply,2.7V-3.6V", 25 AVDD (power) "Analog DAC voltage supply,2.7V-3.6V", 26 AVSS2 (power) "Analog DAC ground supply,0V", 27 LEFT_LOP (hiz) "Left line output(+)", 28 LEFT_LOM (hiz) "Left line output(-)", 29 RIGHT_LOP (hiz) "Right line output (+)", 30 RIGHT_LOM (hiz) "Right line output (-)", 31 ~{RESET} (in) "Reset", 32 DVDD (power) "Digital core voltage supply,1.525V-1.95V", 33 EP (power) "Exposed Thermal Pad"

## TLVAIC3105IRHBRG4
designator U?
Low-Power Stereo CODEC with 6 Inputs, 6 Outputs, HP Amp and Enhanced Digital Effects, 2 ADCs and 2 DACs, 102 dB DAC SNR, -40 to 85 degC, 32-pin QFN (RHB), Green (RoHS & no Sb/Br); Manufacturer: Texas Instruments; PartNumber: TLVAIC3105IRHBRG4; # ADCs (typ): 2; Additional Features: LP Bypass, Notch Filtering, 3D, EQ, Matrix Mixing, PLL; Battery Powered: TRUE; Control Interface: I2C; DAC SNR: 102; Digital Audio Interfaces: L, R, I2S, DSP, TDM; Sampling Rate (Max) (kHz): 96; DatasheetVersion: SLAS513B; PackageVersion: revD, Jun-2011; PackageReference: RHB32-3450X3450TP; PackageDescription: 32-Pin Plastic Quad Flat No-Lead, 5 x 5 mm Body, 0.5 mm Pitch, 3.45 x 3.45 mm Exposed Pad; Supplier 1: Digi-Key; Supplier Part Number 1: TLVAIC3105IRHBRG4-ND; Supplier 2: Newark; Supplier Part Number 2: 53M3967; Supplier 3: Mouser; Supplier Part Number 3: 595-LVAIC3105IRHBRG4; # DACs: 2; Mounting Technology: Surface Mount; Code_JEDEC: MO-220; ComponentLink1Description: Datasheet; ComponentLink1URL: http://www.ti.com/general/docs/lit/getliterature.tsp?genericPartNumber=TLV320AIC3105&fileType=pdf
footprint RHB32-3450X3450TP (QFN, 32-Leads, Body 5x5mm, Pitch 0.5mm, Thermal Pad 3.45x3.45mm, TI Recommended)
pins: 1 MCLK (in) "Master clock input", 2 BCLK (io) "Audio serial data bus bit clock input/output", 3 WCLK (io) "Audio serial data bus word clock input/output", 4 DIN (in) "Audio serial data bus data input", 5 DOUT (hiz) "Audio serial data bus data output", 6 DVSS (power) "Digital core / I/O ground supply, 0 V", 7 IOVDD (power) "Digital I/O voltage supply, 1.1 V-3.6 V", 8 SCL (in) "I2C serial clock input", 9 SDA (io) "I2C serial data input/output", 10 MIC1L/LINE1L (in) "Left input 1", 11 MIC1R/LINE1R (in) "Right input 1", 12 MIC2L/LINE2L (in) "Left input 2", 13 MIC2R/LINE2R (in) "Right input 2", 14 MIC3L/LINE3L/MICDET (in) "Left input 3; can support microphone detection", 15 MICBIAS (out) "Microphone bias voltage output", 16 MIC3R/LINE3R (in) "Right input 3", 17 AVSS1 (power) "Analog ADC ground supply, 0 V", 18 DRVDD (power) "Analog ADC and output driver voltage supply, 2.7 V-3.6 V", 19 HPLOUT (hiz) "High-power output driver (left +)", 20 HPLCOM (hiz) "High-power output driver (left - or multifunctional)", 21 DRVSS (power) "Analog output driver ground supply, 0 V", 22 HPRCOM (hiz) "High-power output driver (right - or multifunctional)", 23 HPROUT (hiz) "High-power output driver (right +)", 24 DRVDD (power) "Analog output driver voltage supply, 2.7 V-3.6 V", 25 AVDD (power) "Analog DAC voltage supply, 2.7 V-3.6 V", 26 AVSS2 (power) "Analog DAC ground supply, 0 V", 27 LEFT_LOP (hiz) "Left line output (+)", 28 LEFT_LOM (hiz) "Left line output (-)", 29 RIGHT_LOP (hiz) "Right line output (+)", 30 RIGHT_LOM (hiz) "Right line output (-)", 31 ~{RESET} (in) "Reset", 32 DVDD (power) "Digital core voltage supply, 1.525 V-1.95 V", 33 EP (power) "Exposed Thermal Pad"

## TLVAIC3105IRHBTG4
designator U?
Low-Power Stereo CODEC with 6 Inputs, 6 Outputs, HP Amp and Enhanced Digital Effects, 2 ADCs and 2 DACs, 102 dB DAC SNR, -40 to 85 degC, 32-pin QFN (RHB), Green (RoHS & no Sb/Br); Manufacturer: Texas Instruments; PartNumber: TLVAIC3105IRHBTG4; # ADCs (typ): 2; Additional Features: LP Bypass, Notch Filtering, 3D, EQ, Matrix Mixing, PLL; Battery Powered: TRUE; Control Interface: I2C; DAC SNR: 102; Digital Audio Interfaces: L, R, I2S, DSP, TDM; Sampling Rate (Max) (kHz): 96; DatasheetVersion: SLAS513B; PackageVersion: revD, Jun-2011; PackageReference: RHB32-3450X3450TP; PackageDescription: 32-Pin Plastic Quad Flat No-Lead, 5 x 5 mm Body, 0.5 mm Pitch, 3.45 x 3.45 mm Exposed Pad; Supplier 1: Digi-Key; Supplier Part Number 1: TLVAIC3105IRHBTG4-ND; Supplier 2: Newark; Supplier Part Number 2: 53M3968; Supplier 3: Mouser; Supplier Part Number 3: 595-LVAIC3105IRHBTG4; # DACs: 2; Mounting Technology: Surface Mount; Code_JEDEC: MO-220; ComponentLink1Description: Datasheet; ComponentLink1URL: http://www.ti.com/general/docs/lit/getliterature.tsp?genericPartNumber=TLV320AIC3105&fileType=pdf
footprint RHB32-3450X3450TP (QFN, 32-Leads, Body 5x5mm, Pitch 0.5mm, Thermal Pad 3.45x3.45mm, TI Recommended)
pins: 1 MCLK (in) "Master clock input", 2 BCLK (io) "Audio serial data bus bit clock input/output", 3 WCLK (io) "Audio serial data bus word clock input/output", 4 DIN (in) "Audio serial data bus data input", 5 DOUT (hiz) "Audio serial data bus data output", 6 DVSS (power) "Digital core / I/O ground supply, 0 V", 7 IOVDD (power) "Digital I/O voltage supply, 1.1 V-3.6 V", 8 SCL (in) "I2C serial clock input", 9 SDA (io) "I2C serial data input/output", 10 MIC1L/LINE1L (in) "Left input 1", 11 MIC1R/LINE1R (in) "Right input 1", 12 MIC2L/LINE2L (in) "Left input 2", 13 MIC2R/LINE2R (in) "Right input 2", 14 MIC3L/LINE3L/MICDET (in) "Left input 3; can support microphone detection", 15 MICBIAS (out) "Microphone bias voltage output", 16 MIC3R/LINE3R (in) "Right input 3", 17 AVSS1 (power) "Analog ADC ground supply, 0 V", 18 DRVDD (power) "Analog ADC and output driver voltage supply, 2.7 V-3.6 V", 19 HPLOUT (hiz) "High-power output driver (left +)", 20 HPLCOM (hiz) "High-power output driver (left - or multifunctional)", 21 DRVSS (power) "Analog output driver ground supply, 0 V", 22 HPRCOM (hiz) "High-power output driver (right - or multifunctional)", 23 HPROUT (hiz) "High-power output driver (right +)", 24 DRVDD (power) "Analog output driver voltage supply, 2.7 V-3.6 V", 25 AVDD (power) "Analog DAC voltage supply, 2.7 V-3.6 V", 26 AVSS2 (power) "Analog DAC ground supply, 0 V", 27 LEFT_LOP (hiz) "Left line output (+)", 28 LEFT_LOM (hiz) "Left line output (-)", 29 RIGHT_LOP (hiz) "Right line output (+)", 30 RIGHT_LOM (hiz) "Right line output (-)", 31 ~{RESET} (in) "Reset", 32 DVDD (power) "Digital core voltage supply, 1.525 V-1.95 V", 33 EP (power) "Exposed Thermal Pad"

## TWL1103TPBSQ1
designator U?
Automotive Catalog Voice-Band Audio Processor (VBAP), -40 to 105 degC, 32-pin TQFP (PBS); Manufacturer: Texas Instruments; PartNumber: TWL1103TPBSQ1; Battery Powered: TRUE; DatasheetVersion: SGLS120B; PackageVersion: Nov-1995; PackageReference: PBS32; PackageDescription: 32-Pin Thin Plastic Quad Flat Pack 0.5 mm Pitch; Supplier 1: Digi-Key; Supplier Part Number 1: 296-12962-2-ND; Supplier 2: Digi-Key; Supplier Part Number 2: 296-12962-1-ND; Supplier 3: Digi-Key; Supplier Part Number 3: 296-12962-6-ND; Supplier 4: Newark; Supplier Part Number 4: 77C1833; Supplier 5: Mouser; Supplier Part Number 5: 595-TWL1103TPBSQ1; Mounting Technology: Surface Mount; Code_JEDEC: MS-026-AAA; ComponentLink1Description: Datasheet; ComponentLink1URL: http://www.ti.com/general/docs/lit/getliterature.tsp?genericPartNumber=TWL1103T-Q1&fileType=pdf
footprint PBS32_N (Thin QFP, 32-Leads, Body 5x5mm, Pitch 0.5mm, IPC Medium Density)
footprint PBS32_L (Thin QFP, 32-Leads, Body 5x5mm, Pitch 0.5mm, IPC High Density)
footprint PBS32_M (Thin QFP, 32-Leads, Body 5x5mm, Pitch 0.5mm, IPC Low Density)
pins: 1 MBIAS (out) "Microphone bias supply output, no decoupling capacitors", 2 MIC1P (in) "MIC1 input (+)", 3 MIC1N (in) "MIC1 input (-)", 4 MIC2P (in) "MIC2 input (+)", 5 MIC2N (in) "MIC2 input (-)", 6 REXT "Internal reference current setting terminal--use precision 100-k ohm resistor and no filtering capacitors", 7 NC "No internal connection", 8 AVSS (power) "Analog negative power supply", 9 NC "No internal connection", 10 NC "No internal connection", 11 SDA (io) "I2C-bus serial address/data input/output--this is a bidirectional terminal used to transfer register control addresses and data into and out of the CODEC. It is an open-drain terminal and therefore requires a pullup resistor (See Datasheet)", 12 SCL (in) "I2C-bus serial clock--this input is used to synchronize the data transfer from and to the VBAP", 13 DVDD (power) "Digital positive power supply", 14 DVSS (power) "Digital negative power supply", 15 PCMI (in) "Receive PCM input", 16 PCMO (hiz) "Transmit PCM output", 17 PCMCLK (in) "PCM data clock", 18 PCMSYN (in) "PCM frame synchronization", 19 BUZZCON (out) "Buzzer output, a pulse-density modulated signal to apply to external buzzer driver", 20 PWRUPSEL (in) "Selects the power-up default mode", 21 ~{RESET} (in) "Active low reset", 22 MCLK (in) "Master system clock input (2.048 MHz) (digital)", 23 VSS (power) "Ground return for bandgap internal reference", 24 PLLVSS (power) "PLL negative power supply", 25 PLLVDD (power) "PLL digital power supply", 26 EARVSS (power) "Analog negative power supply for the earphone amplifiers", 27 EAR1ON (out) "Earphone 1 amplifier output (-)", 28 EARVDD (power) "Analog positive power supply for the earphone amplifiers", 29 EAR1OP (out) "Earphone 1 amplifier output (+)", 30 EARVSS (power) "Analog negative power supply for the earphone amplifiers", 31 EAR2O (out) "Earphone 2 amplifier output", 32 AVDD (power) "Analog positive power supply"

## TWL1103TPBSRQ1
designator U?
Automotive Catalog Voice-Band Audio Processor (VBAP), -40 to 105 degC, 32-pin TQFP (PBS); Manufacturer: Texas Instruments; PartNumber: TWL1103TPBSRQ1; Battery Powered: TRUE; PackageVersion: Nov-1995; PackageReference: PBS32; PackageDescription: 32-Pin Thin Plastic Quad Flat Pack 0.5 mm Pitch; Supplier 1: Digi-Key; Supplier Part Number 1: 296-16969-2-ND; Supplier 2: Digi-Key; Supplier Part Number 2: 296-16969-1-ND; Supplier 3: Digi-Key; Supplier Part Number 3: 296-16969-6-ND; Supplier 4: Newark; Supplier Part Number 4: 77C1834; Supplier 5: Mouser; Supplier Part Number 5: 595-TWL1103TPBSRQ1; Mounting Technology: Surface Mount; Code_JEDEC: MS-026-AAA; ComponentLink1Description: Datasheet; ComponentLink1URL: http://www.ti.com/general/docs/lit/getliterature.tsp?genericPartNumber=&fileType=pdf
footprint PBS32_N (Thin QFP, 32-Leads, Body 5x5mm, Pitch 0.5mm, IPC Medium Density)
footprint PBS32_L (Thin QFP, 32-Leads, Body 5x5mm, Pitch 0.5mm, IPC High Density)
footprint PBS32_M (Thin QFP, 32-Leads, Body 5x5mm, Pitch 0.5mm, IPC Low Density)
pins: 1 MBIAS (out) "Microphone bias supply output, no decoupling capacitors", 2 MIC1P (in) "MIC1 input (+)", 3 MIC1N (in) "MIC1 input (-)", 4 MIC2P (in) "MIC2 input (+)", 5 MIC2N (in) "MIC2 input (-)", 6 REXT "Internal reference current setting terminal--use precision 100-k ohm resistor and no filtering capacitors", 7 NC "No internal connection", 8 AVSS (power) "Analog negative power supply", 9 NC "No internal connection", 10 NC "No internal connection", 11 SDA (io) "I2C-bus serial address/data input/output--this is a bidirectional terminal used to transfer register control addresses and data into and out of the CODEC. It is an open-drain terminal and therefore requires a pullup resistor (See Datasheet)", 12 SCL (in) "I2C-bus serial clock--this input is used to synchronize the data transfer from and to the VBAP", 13 DVDD (power) "Digital positive power supply", 14 DVSS (power) "Digital negative power supply", 15 PCMI (in) "Receive PCM input", 16 PCMO (hiz) "Transmit PCM output", 17 PCMCLK (in) "PCM data clock", 18 PCMSYN (in) "PCM frame synchronization", 19 BUZZCON (out) "Buzzer output, a pulse-density modulated signal to apply to external buzzer driver", 20 PWRUPSEL (in) "Selects the power-up default mode", 21 ~{RESET} (in) "Active low reset", 22 MCLK (in) "Master system clock input (2.048 MHz) (digital)", 23 VSS (power) "Ground return for bandgap internal reference", 24 PLLVSS (power) "PLL negative power supply", 25 PLLVDD (power) "PLL digital power supply", 26 EARVSS (power) "Analog negative power supply for the earphone amplifiers", 27 EAR1ON (out) "Earphone 1 amplifier output (-)", 28 EARVDD (power) "Analog positive power supply for the earphone amplifiers", 29 EAR1OP (out) "Earphone 1 amplifier output (+)", 30 EARVSS (power) "Analog negative power supply for the earphone amplifiers", 31 EAR2O (out) "Earphone 2 amplifier output", 32 AVDD (power) "Analog positive power supply"